# EAGLE library part TMC32NP2-SM8 (library trinamic)
TRINAMIC miniature N & P channel MOSFET full bridge Information given in this library is believed to be accurate and reliable. However no warranty is given for its correctness. Datasheet for TMC32NP2 <http://www.trinamic.com/tmc/media/Downloads/MOSFETs/TMC32NP2-SM8_datasheet.pdf> Description The TMC32NP2-SM8 is a miniature N & P channel MOSFET full bridge, ideally suited for motor drive applications. It perfectly complements the TMC239A-SA / TMC249A-SA stepper motor drivers, in order to build a 1.5A / 2.5A peak current capability (5 seconds) stepper motor driver on a two layer PCB. Using just one small fullbridge, a DC motor can be operated in four quadrant mode. Specifications Electrical data N type 0.12 Ω RDSon max. @ VGS= 10V 0.18 Ω RDSon max. @ VGS= 4.5V ID= 2.9A max. cont. current (MLP) ID= 2.7A max. cont. current (SM8) 30V VBRDSS max. Electrical data P type 0.21 Ω RDSon max. @ VGS= -10V 0.33 Ω RDSon max. @ VGS= -4.5V ID= -2.1A max. cont. current (MLP) ID= -2.0A max. cont. current (SM8) -30V VBRDSS max. Highlights Extremly compact package Low on resistance Low gate charge Applications stepper motor drives (in conjunction with TMC239 / TMC249) brushed DC motor drives (in conjunction with TMC239) Package chip size 2x3mm² dual die package MLP 8 pin SOT223 6.7x7mm² package SM8 RoHS compliant
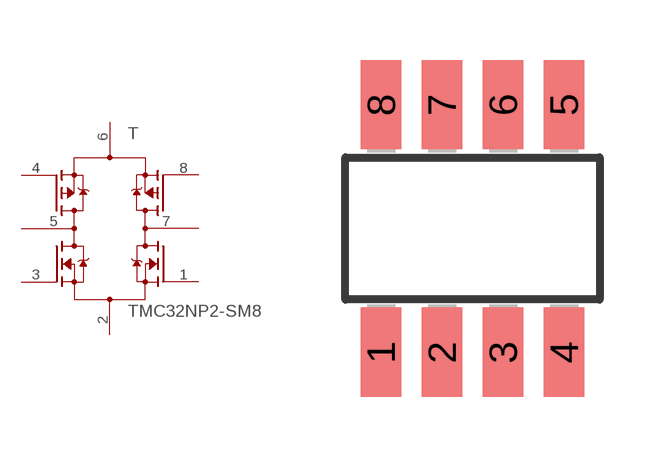
[diagram p25: symbol with the pads of SM8; footprint SM8]

Designator prefix T

## TMC32NP2-SM8  [SM8]
1  G3  in
2  S2_S3
3  G2  in
4  G1  in
5  D1_D2
6  S1_S4
7  D3_D4
8  G4  in

## Footprint SM8 (pad centres in mm)
smd 1.016 x 2.235: 1 -2.286,-3.099; 2 -0.762,-3.099; 3 0.762,-3.099; 4 2.286,-3.099; 5 2.286,3.099; 6 0.762,3.099; 7 -0.762,3.099; 8 -2.286,3.099